# Altium integrated library ThunderKit.IntLib: 58 symbols (part 1 of 2)
Pins are listed as number, name and electrical type; pins without a type are passive.

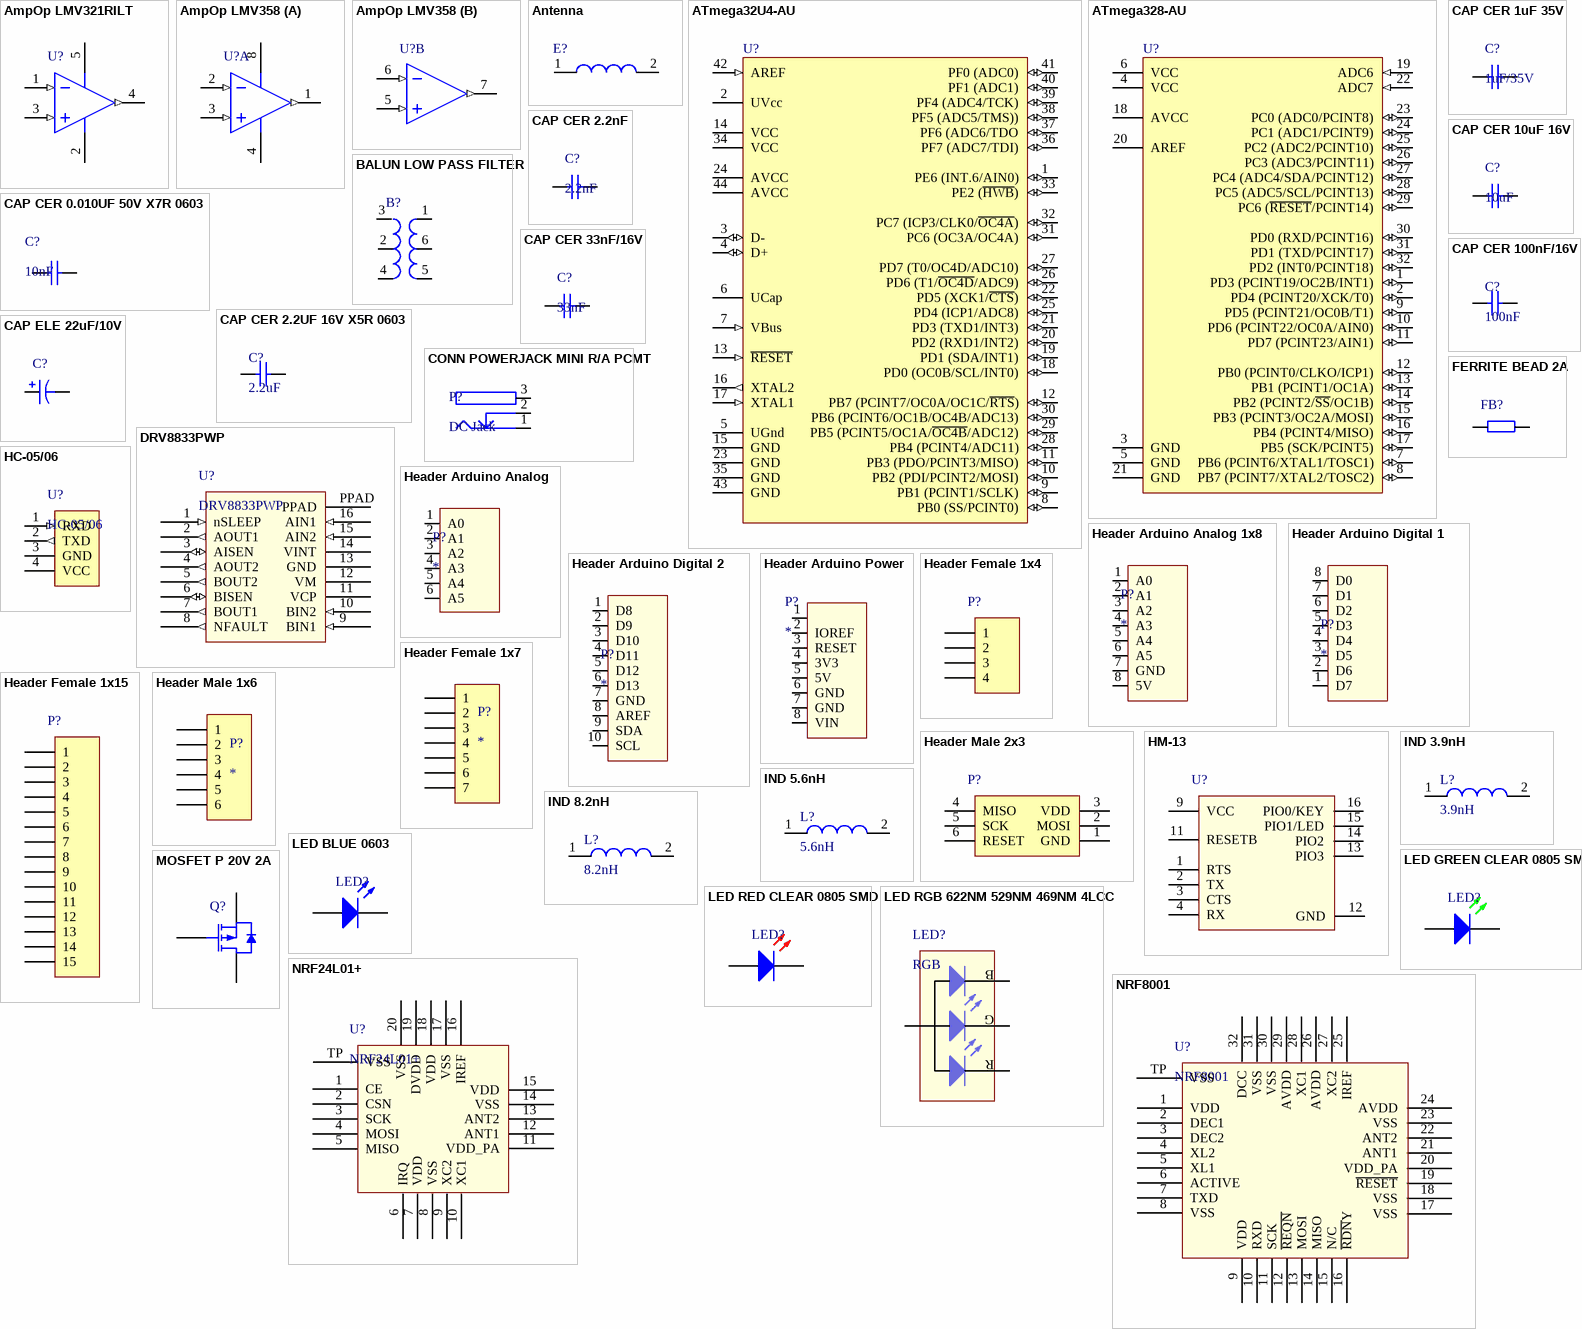
[diagram p0: symbols AmpOp LMV321RILT to NRF8001]

## AmpOp LMV321RILT
designator U?  (value not drawn)
IC OPAMP GP 1.3MHZ RRO SOT23-5; Manufacturer: STMicroelectronics; Manufacturer Part Number: LMV321RILT; Amplifier Type: General Purpose; Number of Circuits: 1; Output Type: Rail-to-Rail; Slew Rate: 0.45 V/µs; Current - Input Bias: 16nA; Voltage - Input Offset: 100µV; Current - Supply: 162µA; Current - Output / Channel: 48mA; Voltage - Supply, Single/Dual (±): 2.7 V ~ 6 V; Supplier 1: Digi-Key; RoHS: RoHS Compliant; Category: Integrated Circuits (ICs); Stock 1: 9362; Pricing 1: 1=0.42, 10=0.363, 100=0.2711, 500=0.213, 1000=0.16459 (USD); Packaging: Cut Tape (CT); Part Status: Active; Gain Bandwidth Product: 1.3MHz; -3db Bandwidth: -; Operating Temperature: -40°C ~ 125°C; Mounting Type: Surface Mount; Package / Case: SC-74A, SOT-753; Supplier Device Package: SOT-23-5; ComponentLink1URL: http://www.st.com/content/ccc/resource/technical/document/datasheet/b9/d8/3b/8f/a1/8f/46/01/CD00079372.pdf/files/CD00079372.pdf/jcr:content/translations/en.CD00079372.pdf; ComponentLink1Description: http://www.st.com/content/ccc/resource/technical/document/datasheet/b9/d8/3b/8f/a1/8f/46/01/CD00079372.pdf/files/CD00079372.pdf/jcr:content/translations/en.CD00079372.pdf; Supplier Part Number 1: 497-4942-1-ND
footprint SOT23-5 (Regulador 3.3v)
pins: 1 IN- (in), 2 GND (power), 3 IN+ (in), 4 OUT (out), 5 VCC (power)

## AmpOp LMV358
designator U?, comment OPAMP lmv358  (value not drawn)
IC OPAMP GP 1MHZ RRO 8VSSOP; Manufacturer: Texas Instruments; Manufacturer Part Number: LMV358IDGKR; Amplifier Type: General Purpose; Number of Circuits: 2; Output Type: Rail-to-Rail; Slew Rate: 1 V/µs; Current - Input Bias: 15nA; Voltage - Input Offset: 1.7mV; Current - Supply: 210µA; Current - Output / Channel: 160mA; Voltage - Supply, Single/Dual (±): 2.7 V ~ 5.5 V, ±1.35 V ~ 2.75 V; Supplier 1: Digi-Key; RoHS: RoHS Compliant; Category: Integrated Circuits (ICs); Stock 1: 31598; Pricing 1: 1=0.77, 10=0.68, 100=0.52, 500=0.412, 1000=0.33 (USD); Packaging: Digi-Reel®; Part Status: Active; Gain Bandwidth Product: 1MHz; -3db Bandwidth: -; Operating Temperature: -40°C ~ 125°C; Mounting Type: Surface Mount; Package / Case: 8-TSSOP, 8-MSOP (0.118", 3.00mm Width); Supplier Device Package: 8-VSSOP; ComponentLink1URL: http://www.ti.com/lit/ds/symlink/lmv324.pdf; ComponentLink1Description: http://www.ti.com/lit/ds/symlink/lmv324.pdf; Supplier Part Number 1: 296-13455-6-ND
footprint VSSOP (TSOP, 8-Leads, Body 3,00x3,00mm, Pitch 0,65mm, IPC Medium Density)
part A pins: 1 OUT1 (out), 2 IN1- (in), 3 IN1+ (in), 4 GND (power), 8 VCC (power)
part B pins: 5 IN2+ (in), 6 IN2- (in), 7 2 (out)

## Antenna
designator E?, comment AMCA31-2R450G-S1F-T  (value not drawn)
ANTENNA CHIP DIELECTRIC 2450MHZ; Manufacturer: Abracon LLC; Frequency Group: UHF (2 GHz ~ 3 GHz); Frequency (Center/Band): 2.4GHz; Frequency Range: 2.405GHz ~ 2.495GHz; Number of Bands: 1; VSWR: 2; Gain: 0.5dBi; Power - Max: 3W; Supplier 1: Digi-Key; Manufacturer Part Number: AMCA31-2R450G-S1F-T; RoHS: RoHS Compliant; Category: RF/IF and RFID; Stock 1: 2070; Pricing 1: 1=0.48, 10=0.408, 25=0.3568, 100=0.3059, 250=0.26512, 500=0.22434 (USD); Packaging: Cut Tape (CT); Part Status: Active; Antenna Type: Chip; Return Loss: -; Features: -; Termination: Solder; Ingress Protection: -; Mounting Type: Surface Mount; Height (Max): 0.047" (1.20mm); Applications: Bluetooth, WLAN; ComponentLink1URL: http://www.abracon.com/chip-antenna/AMCA31-2R450G-S1F-T.pdf; ComponentLink1Description: http://www.abracon.com/chip-antenna/AMCA31-2R450G-S1F-T.pdf; Supplier Part Number 1: 535-12386-1-ND
pins: 1, 2

## ATmega32U4-AU
designator U?
8-bit AVR Microcontroller, 2.7-5.5V, 32KB Flash, 2.5KB EEPROM, 1KB SRAM, USB Controller, 44-pin TQFP, Industrial Grade (-40°C to 85°C); Published: 1-Apr-2010; DatasheetVersion: revD, Jan-2009; PackageVersion: rev.G, Jul-2007; PackageReference: 44ML; Publisher: Altium Limited; PackageDescription: 44-Pin Plastic Thin Quad Flat Pack, 10 x 10 x 1.0 mm Body, 0.8 mm Pitch (TQFP); Supplier 1: Digi-Key; Supplier Part Number 1: ATMEGA32U4-AU-ND; Supplier 2: Farnell; Supplier Part Number 2: 1748525; Supplier 3: Mouser; Supplier Part Number 3: 556-ATMEGA32U4-AU; ComponentLink1Description: Manufacturer Link; ComponentLink1URL: http://www.atmel.com/products/avr/default.asp?; ComponentLink2Description: ATmega16U4/32U4 Datasheet; ComponentLink2URL: http://www.atmel.com/dyn/resources/prod_documents/doc7766.pdf; ComponentLink3Description: ATmega16U4 ATmega32U4 Summary; ComponentLink3URL: http://www.atmel.com/dyn/resources/prod_documents/7766S.pdf; ComponentLink4Description: Atmel.com Home; ComponentLink4URL: http://www.atmel.com
footprint 44ML (Thin QFP, 44-Leads, Body 10x10mm, Pitch 0.8mm, IPC Low Density)
pins: 1 PE6 (INT.6/AIN0) (io), 2 UVcc (power), 3 D- (io), 4 D+ (io), 5 UGnd (power), 6 UCap, 7 VBus (in), 8 PB0 (SS/PCINT0) (io), 9 PB1 (PCINT1/SCLK) (io), 10 PB2 (PDI/PCINT2/MOSI) (io), 11 PB3 (PDO/PCINT3/MISO) (io), 12 PB7 (PCINT7/OC0A/OC1C/~{RTS}) (io), 13 ~{RESET} (in), 14 VCC (power), 15 GND (power), 16 XTAL2 (out), 17 XTAL1 (in), 18 PD0 (OC0B/SCL/INT0) (io), 19 PD1 (SDA/INT1) (io), 20 PD2 (RXD1/INT2) (io), 21 PD3 (TXD1/INT3) (io), 22 PD5 (XCK1/~{CTS}) (io), 23 GND (power), 24 AVCC (power), 25 PD4 (ICP1/ADC8) (io), 26 PD6 (T1/~{OC4D}/ADC9) (io), 27 PD7 (T0/OC4D/ADC10) (io), 28 PB4 (PCINT4/ADC11) (io), 29 PB5 (PCINT5/OC1A/~{OC4B}/ADC12) (io), 30 PB6 (PCINT6/OC1B/OC4B/ADC13) (io), 31 PC6 (OC3A/OC4A) (io), 32 PC7 (ICP3/CLK0/~{OC4A}) (io), 33 PE2 (~{HWB}) (io), 34 VCC (power), 35 GND (power), 36 PF7 (ADC7/TDI) (io), 37 PF6 (ADC6/TDO (io), 38 PF5 (ADC5/TMS)) (io), 39 PF4 (ADC4/TCK) (io), 40 PF1 (ADC1) (io), 41 PF0 (ADC0) (io), 42 AREF (in), 43 GND (power), 44 AVCC (power)

## ATmega328-AU
designator U?
8-bit AVR Microcontroller, 32KB Flash, 1KB EEPROM, 2KB SRAM, 32-pin TQFP, Industrial Grade (-40°C to 85°C); Published: 1-Apr-2010; DatasheetVersion: revA, Jan-2010; PackageVersion: revB, Oct-2001; PackageReference: 32A; Publisher: Altium Limited; PackageDescription: 32-Lead, 7x7x1.0 mm Body, 0.8mm Lead Pitch, Thin Profile Plastic Quad Flat Package (TQFP); Supplier 1: Digi-Key; Supplier Part Number 1: ATMEGA328-AU-ND; Supplier 2: Mouser; Supplier Part Number 2: 556-ATMEGA328-AU; Code_JEDEC: MS-026-ABA; ComponentLink1Description: Manufacturer Link; ComponentLink1URL: http://www.atmel.com/products/avr/default.asp?; ComponentLink2Description: ATmega48A/48PA/88A/88PA/168A/168PA/328/328P Datasheet; ComponentLink2URL: http://www.atmel.com/dyn/resources/prod_documents/8271.pdf; ComponentLink3Description: ATmega48A/48PA/88A/88PA/168A/168PA/328/328P Summary; ComponentLink3URL: http://www.atmel.com/dyn/resources/prod_documents/8271S.pdf; ComponentLink4Description: Atmel.com Home; ComponentLink4URL: http://www.atmel.com
footprint 32A_N (Thin QFP, 32-Leads, Body 7x7mm, Pitch 0.8mm, IPC Medium Density)
footprint 32A_L (Thin QFP, 32-Leads, Body 7x7mm, Pitch 0.8mm, IPC High Density)
footprint 32A_M (Thin QFP, 32-Leads, Body 7x7mm, Pitch 0.8mm, IPC Low Density)
pins: 1 PD3 (PCINT19/OC2B/INT1) (io), 2 PD4 (PCINT20/XCK/T0) (io), 3 GND (power), 4 VCC (power), 5 GND (power), 6 VCC (power), 7 PB6 (PCINT6/XTAL1/TOSC1) (io), 8 PB7 (PCINT7/XTAL2/TOSC2) (io), 9 PD5 (PCINT21/OC0B/T1) (io), 10 PD6 (PCINT22/OC0A/AIN0) (io), 11 PD7 (PCINT23/AIN1) (io), 12 PB0 (PCINT0/CLKO/ICP1) (io), 13 PB1 (PCINT1/OC1A) (io), 14 PB2 (PCINT2/~{SS}/OC1B) (io), 15 PB3 (PCINT3/OC2A/MOSI) (io), 16 PB4 (PCINT4/MISO) (io), 17 PB5 (SCK/PCINT5) (io), 18 AVCC (power), 19 ADC6 (in), 20 AREF, 21 GND (power), 22 ADC7 (in), 23 PC0 (ADC0/PCINT8) (io), 24 PC1 (ADC1/PCINT9) (io), 25 PC2 (ADC2/PCINT10) (io), 26 PC3 (ADC3/PCINT11) (io), 27 PC4 (ADC4/SDA/PCINT12) (io), 28 PC5 (ADC5/SCL/PCINT13) (io), 29 PC6 (~{RESET}/PCINT14) (io), 30 PD0 (RXD/PCINT16) (io), 31 PD1 (TXD/PCINT17) (io), 32 PD2 (INT0/PCINT18) (io)

## BALUN LOW PASS FILTER
designator B?, comment Signal Conditioning 2.45GHz  (value not drawn)
NRF24L01 NRF24LE01 NRF8001 SMD; Manufacturer: Johanson Technology Inc.; Manufacturer Part Number: 2450BM14A0002T; Frequency Range: 2.4GHz ~ 2.5GHz; Impedance - Unbalanced/Balanced: 50 / - Ohm; Phase Difference: 160° ±15; Insertion Loss (Max): 2.0dB; Return Loss (Min): 9.5dB; Supplier 1: Digi-Key; RoHS: RoHS Compliant; Category: RF/IF and RFID; Stock 1: 110873; Pricing 1: 1=0.99, 10=0.879, 25=0.794, 100=0.6946, 250=0.60952, 500=0.53866, 1000=0.42525 (USD); Packaging: Cut Tape (CT); Part Status: Active; Package / Case: 0603 (1608 Metric), 6 PC Pad; Mounting Type: Surface Mount; ComponentLink1URL: http://www.johansontechnology.com/datasheets/baluns/Balun_Filter_Matched_2450BM14A0002_v2.pdf; ComponentLink1Description: http://www.johansontechnology.com/datasheets/baluns/Balun_Filter_Matched_2450BM14A0002_v2.pdf; Supplier Part Number 1: 712-1574-1-ND
footprint Low pass (SON, 6-Leads, Body 1,60x0,80mm, Pitch 0,50mm, IPC Medium Density)
pins: 1, 2, 3, 4, 5, 6 n/c

## CAP CER 0.010UF 50V X7R 0603
designator C?, comment 10nF
CAP CER 0.010UF 50V X7R 0603; Manufacturer: AVX; Manufacturer Part Number: 06035F103K4T2A; Unit: pcs; SuppliedAmount: 0; MinAmount: 20000; Multiples: 4000; Capacitor type: ceramic; Dielectric: X8R; Tolerance: ±10%; Case - inch: 0603; Case - mm: 1608; Capacitor application: automobile electronics; Conform to the norm: AEC-Q200; Supplier 1: TME; Category: 0603 MLCC SMD Capacitors; Stock 1: 0; Pricing 1: 20000=0.01042 (USD); Weight: 0.035; Price Type: NET; Capacitance: 10nF; Operating voltage: 50V; Mounting: SMD; Operating temperature: -55...150°C; ComponentLink1URL: http://www.tme.eu/en/details/06035f103k4t2a/0603-mlcc-smd-capacitors/avx/; ComponentLink1Description: http://www.tme.eu/en/details/06035f103k4t2a/0603-mlcc-smd-capacitors/avx/
footprint Capacitor-0603 (Chip Capacitor; Body 1.6 x 0.8 mm (LxW typ))
pins: 1, 2

## CAP CER 1uF 35V
designator C?, comment 1uF/35V
CAP CER 1UF 35V X7R 0805; Manufacturer: Murata Electronics North America; Manufacturer Part Number: GRM219R7YA105KA12D; Capacitance: 1µF; Tolerance: ±10%; Supplier 1: Digi-Key; RoHS: RoHS Compliant; Category: Capacitors; Stock 1: 7995; Pricing 1: 1=0.24, 10=0.162, 25=0.1176, 50=0.098, 100=0.0823, 250=0.06664, 500=0.0588, 1000=0.04998 (USD); Packaging: Cut Tape (CT); Part Status: Active; Voltage - Rated: 35V; Temperature Coefficient: X7R; Operating Temperature: -55°C ~ 125°C; Features: Derating Recommended; Ratings: -; Applications: General Purpose; Failure Rate: *; Mounting Type: Surface Mount, MLCC; Package / Case: 0805 (2012 Metric); Size / Dimension: 0.079" L x 0.049" W (2.00mm x 1.25mm); Height - Seated (Max): -; Thickness (Max): 0.037" (0.95mm); Lead Spacing: -; Lead Style: -; ComponentLink1URL: http://www.murata.com/~/media/webrenewal/support/library/catalog/products/capacitor/mlcc/c02e.pdf; ComponentLink1Description: http://www.murata.com/~/media/webrenewal/support/library/catalog/products/capacitor/mlcc/c02e.pdf; Supplier Part Number 1: 490-10494-1-ND
footprint CAP 0805 N (Chip, Body 2.0x1.3mm, IPC Medium Density)
pins: 1, 2

## CAP CER 2.2nF
designator C?, comment 2.2nF
CAP CER 2200PF 10V X5R 0201 -> GRM033R61A222KA01D; Manufacturer: Murata Electronics North America; Tolerance: ±10%; Supplier 1: Digi-Key; Manufacturer Part Number: GRM033R61A222KA01D; RoHS: RoHS Compliant; Category: Capacitors; Stock 1: 63253; Pricing 1: 1=0.1, 50=0.004, 100=0.0033, 250=0.00272, 500=0.00232, 1000=0.0018, 5000=0.0015 (USD); Packaging: Cut Tape (CT); Part Status: Active; Capacitance: 2200pF; Voltage - Rated: 10V; Temperature Coefficient: X5R; Operating Temperature: -55°C ~ 85°C; Features: -; Ratings: -; Applications: General Purpose; Mounting Type: Surface Mount, MLCC; Package / Case: 0201 (0603 Metric); Size / Dimension: 0.024" L x 0.012" W (0.60mm x 0.30mm); Height - Seated (Max): -; Thickness (Max): 0.013" (0.33mm); Lead Spacing: -; Lead Style: -; ComponentLink1URL: http://www.murata.com/~/media/webrenewal/support/library/catalog/products/capacitor/mlcc/c02e.pdf; ComponentLink1Description: http://www.murata.com/~/media/webrenewal/support/library/catalog/products/capacitor/mlcc/c02e.pdf; Supplier Part Number 1: 490-3162-1-ND
footprint Capacitor-0603 (Chip Capacitor; Body 1.6 x 0.8 mm (LxW typ))
pins: 1, 2

## CAP CER 2.2UF 16V X5R 0603
designator C?, comment 2.2uF
CAP CER 2.2UF 16V X5R 0603; Manufacturer: Murata Electronics North America; Manufacturer Part Number: GRM188R61C225KE15D; Capacitance: 2.2µF; Tolerance: ±10%; Supplier 1: Digi-Key; RoHS: RoHS Compliant; Category: Capacitors; Stock 1: 411149; Pricing 1: 1=0.12, 10=0.08, 50=0.046, 100=0.038, 250=0.032, 500=0.0268, 1000=0.022 (USD); Packaging: Cut Tape (CT); Part Status: Active; Voltage - Rated: 16V; Temperature Coefficient: X5R; Operating Temperature: -55°C ~ 85°C; Features: -; Ratings: -; Applications: General Purpose; Failure Rate: *; Mounting Type: Surface Mount, MLCC; Package / Case: 0603 (1608 Metric); Size / Dimension: 0.063" L x 0.031" W (1.60mm x 0.80mm); Height - Seated (Max): -; Thickness (Max): 0.035" (0.90mm); Lead Spacing: -; Lead Style: -; ComponentLink1URL: http://www.murata.com/~/media/webrenewal/support/library/catalog/products/capacitor/mlcc/c02e.pdf; ComponentLink1Description: http://www.murata.com/~/media/webrenewal/support/library/catalog/products/capacitor/mlcc/c02e.pdf; Supplier Part Number 1: 490-3296-1-ND
footprint Capacitor-0603 (Chip Capacitor; Body 1.6 x 0.8 mm (LxW typ))
footprint Capacitor-0603 (Chip Capacitor; Body 1.6 x 0.8 mm (LxW typ))
pins: 1, 2

## CAP CER 10uF 16V
designator C?, comment 10uF
CAP CER 10UF 16V X5R 0805; Manufacturer: AVX Corporation; Manufacturer Part Number: 0805YD106KAT2A; Capacitance: 10µF; Tolerance: ±10%; Supplier 1: Digi-Key; RoHS: RoHS Compliant; Category: Capacitors; Stock 1: 274209; Pricing 1: 1=0.19, 10=0.127, 25=0.0932, 50=0.0762, 100=0.0644, 250=0.05256, 500=0.04408, 1000=0.03899 (USD); Packaging: Cut Tape (CT); Part Status: Active; Voltage - Rated: 16V; Temperature Coefficient: X5R; Operating Temperature: -55°C ~ 85°C; Features: -; Ratings: -; Applications: General Purpose; Mounting Type: Surface Mount, MLCC; Package / Case: 0805 (2012 Metric); Size / Dimension: 0.079" L x 0.049" W (2.01mm x 1.25mm); Height - Seated (Max): -; Thickness (Max): 0.055" (1.40mm); Lead Spacing: -; Lead Style: -; ComponentLink1URL: http://datasheets.avx.com/cx5r.pdf; ComponentLink1Description: http://datasheets.avx.com/cx5r.pdf; Supplier Part Number 1: 478-5165-1-ND
footprint CAP 0805 N (Chip, Body 2.0x1.3mm, IPC Medium Density)
pins: 1, 2

## CAP CER 33nF/16V
designator C?, comment 33nF
CAP CER 0.033UF 16V X7R 0603; Manufacturer: Wurth Electronics Inc; Manufacturer Part Number: 885012206043; Capacitance: 0.033µF; Tolerance: ±10%; Supplier 1: Digi-Key; RoHS: RoHS Compliant; Category: Capacitors; Stock 1: 3700; Pricing 1: 1=0.1, 50=0.0468, 100=0.0367, 250=0.0324, 500=0.02952, 1000=0.02736 (USD); Packaging: Cut Tape (CT); Part Status: Active; Voltage - Rated: 16V; Temperature Coefficient: X7R; Operating Temperature: -55°C ~ 125°C; Features: -; Ratings: -; Applications: General Purpose; Mounting Type: Surface Mount, MLCC; Package / Case: 0603 (1608 Metric); Size / Dimension: 0.063" L x 0.031" W (1.60mm x 0.80mm); Height - Seated (Max): -; Thickness (Max): 0.034" (0.87mm); Lead Spacing: -; Lead Style: -; ComponentLink1URL: http://katalog.we-online.de/pbs/datasheet/885012206043.pdf; ComponentLink1Description: http://katalog.we-online.de/pbs/datasheet/885012206043.pdf; Supplier Part Number 1: 732-7962-1-ND
footprint Capacitor-0603 (Chip Capacitor; Body 1.6 x 0.8 mm (LxW typ))
pins: 1, 2

## CAP CER 100nF/16V
designator C?, comment 100nF
CAP CER 0.1UF 16V X7S 0201; Manufacturer: Murata Electronics North America; Manufacturer Part Number: GRM033C71C104KE14D; Capacitance: 0.10µF; Tolerance: ±10%; Supplier 1: Digi-Key; RoHS: RoHS Compliant; Category: Capacitors; Stock 1: 0; Pricing 1: 1=0.1, 10=0.05, 25=0.0356, 50=0.0274, 100=0.0231, 250=0.01892, 500=0.01618, 1000=0.0126, 5000=0.0105 (USD); Packaging: Cut Tape (CT); Part Status: Active; Voltage - Rated: 16V; Temperature Coefficient: X7S; Operating Temperature: -55°C ~ 125°C; Features: Derating Recommended; Ratings: -; Applications: General Purpose; Mounting Type: Surface Mount, MLCC; Package / Case: 0201 (0603 Metric); Size / Dimension: 0.024" L x 0.012" W (0.60mm x 0.30mm); Height - Seated (Max): -; Thickness (Max): 0.013" (0.33mm); Lead Spacing: -; Lead Style: -; ComponentLink1URL: http://www.murata.com/~/media/webrenewal/support/library/catalog/products/capacitor/mlcc/c02e.pdf; ComponentLink1Description: http://www.murata.com/~/media/webrenewal/support/library/catalog/products/capacitor/mlcc/c02e.pdf; Supplier Part Number 1: 490-10387-1-ND
footprint Capacitor-0603 (Chip Capacitor; Body 1.6 x 0.8 mm (LxW typ))
pins: 1, 2

## CAP ELE 22uF/10V
designator C?, comment EEE-1AA220WR  (value not drawn)
CAP ALUM 22UF 20% 10V SMD; Manufacturer: Panasonic Electronic Components; Capacitance: 22µF; Lifetime @ Temp.: 1000 Hrs @ 85°C; Polarization: Polar; Ripple Current: 28mA @ 120Hz; Surface Mount Land Size: 0.169" L x 0.169" W (4.30mm x 4.30mm); Supplier 1: Digi-Key; Manufacturer Part Number: EEE-1AA220WR; RoHS: RoHS Compliant; Category: Capacitors; Stock 1: 39335; Pricing 1: 1=0.28, 10=0.194, 25=0.1552, 50=0.1294, 100=0.1101, 250=0.0874, 500=0.07768, 1000=0.06798 (USD); Packaging: Cut Tape (CT); Part Status: Active; Tolerance: ±20%; Voltage Rating: 10V; ESR (Equivalent Series Resistance): -; Operating Temperature: -40°C ~ 85°C; Applications: General Purpose; Impedance: -; Lead Spacing: -; Size / Dimension: 0.157" Dia (4.00mm); Height - Seated (Max): 0.213" (5.40mm); Mounting Type: Surface Mount; Package / Case: Radial, Can - SMD; ComponentLink1URL: https://industrial.panasonic.com/cdbs/www-data/pdf/RDE0000/ABA0000C1145.pdf; ComponentLink1Description: https://industrial.panasonic.com/cdbs/www-data/pdf/RDE0000/ABA0000C1145.pdf; Supplier Part Number 1: PCE3869CT-ND
footprint CAP ELE 4x5.5 (Aluminum Electrolytic Capacitor, Body 4,30x4,30x5,50mm, IPC Low Density)
pins: 1, 2

## CONN POWERJACK MINI R/A PCMT
designator P?, comment DC Jack
CONN POWERJACK MINI R/A PCMT; Manufacturer: Switchcraft Inc.; Manufacturer Part Number: RAPC712X; Gender: Male; Industry Recognized Mating Diameter: 2.50mm ID (0.098"), 5.50mm OD (0.217"); Actual Diameter: 0.098" (2.50mm ID), 0.248" (6.30mm OD); Number of Positions/Contacts: 2 Conductors, 3 Contacts; Internal Switch(s): Single Switch, Normally Closed; Shielding: Unshielded; Current Rating: 5A; Includes: 1 pc - 1 Connector; Supplier 1: Digi-Key; RoHS: RoHS Compliant; Category: Connectors, Interconnects; Stock 1: 37774; Pricing 1: 1=0.9, 10=0.833, 25=0.7856, 50=0.7616, 100=0.7259, 250=0.714, 500=0.7 (USD); Packaging: Bulk; Part Status: Active; Connector Type: Jack; Mounting Type: Through Hole, Right Angle; Mounting Feature: -; Termination: Solder Eyelet(s); Features: -; Insulation Color: -; Voltage - Rated: -; Mating Length/Depth: -; Contact Material - Plating: Silver; Body Material: -; Operating Temperature: -; ComponentLink1URL: http://www.conxall.com/Drawings/rapc712x_cd.pdf; ComponentLink1Description: http://www.conxall.com/Drawings/rapc712x_cd.pdf; Supplier Part Number 1: SC237-ND
footprint PJ-002B (DC Power Jack, 2.5mm, KLD Series, PCB Mount)
pins: 1 GND (power), 2 DETECT, 3 V+ (power)

## DRV8833PWP
designator U?
IC MOTOR DRIVER PAR 16HTSSOP; Manufacturer: Texas Instruments; Output Configuration: Half Bridge (4); Interface: PWM; Load Type: Inductive; Rds On (Typ): 160 mOhm LS, 200 mOhm HS; Current - Output / Channel: 1.5A; Current - Peak Output: 2A; Voltage - Supply: 2.7 V ~ 10.8 V; Fault Protection: Current Limiting, Over Temperature, Short Circuit, UVLO; Supplier 1: Digi-Key; Manufacturer Part Number: DRV8833PWP; RoHS: RoHS Compliant; Category: Integrated Circuits (ICs); Stock 1: 188; Pricing 1: 1=2.87, 10=2.576, 100=2.0704, 500=1.701, 1000=1.215 (USD); Packaging: Tube; Applications: DC Motors, General Purpose, Solenoids, Stepper Motors; Technology: NMOS; Voltage - Load: 2.7 V ~ 10.8 V; Operating Temperature: -40°C ~ 150°C (TJ); Features: Status Flag; Mounting Type: Surface Mount; Package / Case: 16-TSSOP (0.173", 4.40mm Width) Exposed Pad; Supplier Device Package: 16-HTSSOP; ComponentLink1URL: http://www.ti.com/lit/ds/symlink/drv8833.pdf; ComponentLink1Description: http://www.ti.com/lit/ds/symlink/drv8833.pdf
footprint DRV8833PWP_3D (Texas Instruments DRV8833 Motor Driver)
pins: 1 nSLEEP (in), 2 AOUT1 (out), 3 AISEN (io), 4 AOUT2 (out), 5 BOUT2 (out), 6 BISEN (io), 7 BOUT1 (out), 8 NFAULT (out), 9 BIN1 (in), 10 BIN2 (in), 11 VCP, 12 VM (power), 13 GND (power), 14 VINT (power), 15 AIN2 (in), 16 AIN1 (in), PPAD (power)

## FERRITE BEAD 2A
designator FB?, comment *MH2029-300Y  (value not drawn)
FERRITE BEAD 30 OHM 0805 1LN; Manufacturer: Bourns Inc.; Filter Type: Power, Signal Line; Number of Lines: 1; Impedance @ Frequency: 30 Ohm @ 100MHz; Current Rating (Max): 3A; DC Resistance (DCR) (Max): 25 mOhm; Supplier 1: Digi-Key; Manufacturer Part Number: MH2029-300Y; RoHS: RoHS Compliant; Category: Filters; Stock 1: 40536; Pricing 1: 1=0.1, 10=0.062, 25=0.0568, 50=0.051, 100=0.0375, 250=0.02724, 500=0.02498, 1000=0.02157 (USD); Packaging: Cut Tape (CT); Part Status: Active; Ratings: -; Operating Temperature: -55°C ~ 125°C; Package / Case: 0805 (2012 Metric); Mounting Type: Surface Mount; Height (Max): 0.043" (1.10mm); Size / Dimension: 0.079" L x 0.047" W (2.00mm x 1.20mm); ComponentLink1URL: http://www.bourns.com/docs/Product-Datasheets/mh.pdf; ComponentLink1Description: http://www.bourns.com/docs/Product-Datasheets/mh.pdf; Supplier Part Number 1: MH2029-300YCT-ND
footprint Ferrite 0603
pins: 1 VCC (power), 2 GND (power)

## HC-05/06
designator U?
HC-05/06 Bluetooth Module
footprint HC-05/06 (HC-05/06 Bluetooth Module)
pins: 1 RXD (in), 2 TXD (out), 3 GND (power), 4 VCC

## Header Arduino Analog
designator P?
footprint HDR FEMALE 1x6
pins: 1 A0, 2 A1, 3 A2, 4 A3, 5 A4, 6 A5

## Header Arduino Analog 1x8
designator P?
footprint HDR FEMALE 1x8
pins: 1 A0, 2 A1, 3 A2, 4 A3, 5 A4, 6 A5, 7 GND, 8 5V

## Header Arduino Digital 1
designator P?
footprint HDR FEMALE 1x8
pins: 1 D7, 2 D6, 3 D5, 4 D4, 5 D3, 6 D2, 7 D1, 8 D0

## Header Arduino Digital 2
designator P?
footprint HDR FEMALE 1x10
pins: 1 D8, 2 D9, 3 D10, 4 D11, 5 D12, 6 D13, 7 GND, 8 AREF, 9 SDA, 10 SCL

## Header Arduino Power
designator P?
footprint HDR FEMALE 1x8
pins: 1, 2 IOREF, 3 RESET, 4 3V3, 5 5V, 6 GND, 7 GND, 8 VIN

## Header Female 1x4
designator P?  (value not drawn)
Headers & Wire Housings 40Pin 2mm Spacing Single Row Hdrs, 5pc; Manufacturer: Cromax; Mounting Angle: Vertical; Number of Positions: 40 Position; Supplier 1: -; Manufacturer Part Number: -; RoHS: RoHS Compliant; Category: Headers & Wire Housings; Stock 1: 14; Pricing 1: 1=1.60, 5=0.32 (BRL); Accessory Type: -; Contact Plating: Gold; Contact Type: -; Number of Rows: 1 Row; Product: Headers; Termination Style: Through Hole; Type: Breakaway; Brand: Cromax; Mounting Style: Straight Pin; Pitch: 2 mm; Row Spacing: -; Contact Gender: Pin (Female); Product Category: Accessories; RoHS - Mouser: Y; Minimum Order Quantity: 1; Reeling: False; ComponentLink1URL: -; ComponentLink1Description: -; Supplier Part Number 1: -
footprint HDR FEMALE 1x4 (Connector; Header; 4 Position)
pins: 1, 2, 3 (power), 4 (power)

## Header Female 1x7
designator P?
Headers & Wire Housings 36Pin 2mm Spacing Single Row Hdrs, 5pc; Manufacturer: Molex, LLC; Manufacturer Part Number: 0022284360; Connector Type: Header, Unshrouded, Breakaway; Number of Positions: 36; Number of Positions Loaded: All; Pitch: 0.100" (2.54mm); Supplier 1: Digi-Key; RoHS: RoHS Compliant; Category: Connectors, Interconnects; Stock 1: 9595; Pricing 1: 1=0.98, 10=0.858, 25=0.808, 50=0.7742, 100=0.7405, 250=0.6732, 500=0.60588 (USD); Packaging: Bulk; Contact Type: Male Pin; Number of Rows: 1; Row Spacing: -; Contact Mating Length: 0.240" (6.10mm); Mounting Type: Through Hole; Termination: Solder; Fastening Type: -; Features: -; Contact Finish: Tin; Contact Finish Thickness: 100µin (2.54µm); Color: Black; ComponentLink1URL: http://www.molex.com/pdm_docs/sd/022284360_sd.pdf; ComponentLink1Description: http://www.molex.com/pdm_docs/sd/022284360_sd.pdf; Supplier Part Number 1: WM50014-36-ND
footprint HDR FEMALE 1x7
pins: 1, 2, 3, 4, 5, 6, 7

## Header Female 1x15
designator P?  (value not drawn)
Headers & Wire Housings 40Pin 2mm Spacing Single Row Hdrs, 5pc; Manufacturer: Cromax; Mounting Angle: Vertical; Number of Positions: 40 Position; Supplier 1: -; Manufacturer Part Number: -; RoHS: RoHS Compliant; Category: Headers & Wire Housings; Stock 1: 14; Pricing 1: 1=1.60, 5=0.32 (BRL); Accessory Type: -; Contact Plating: Gold; Contact Type: -; Number of Rows: 1 Row; Product: Headers; Termination Style: Through Hole; Type: Breakaway; Brand: Cromax; Mounting Style: Straight Pin; Pitch: 2 mm; Row Spacing: -; Contact Gender: Pin (Female); Product Category: Accessories; RoHS - Mouser: Y; Minimum Order Quantity: 1; Reeling: False; ComponentLink1URL: -; ComponentLink1Description: -; Supplier Part Number 1: -
footprint HDR FEMALE 1x15
pins: 1, 2, 3 (power), 4 (power), 5, 6, 7 (power), 8 (power), 9, 10, 11 (power), 12 (power), 13, 14, 15 (power)

## Header Male 1x6
designator P?
Headers & Wire Housings 36Pin 2mm Spacing Single Row Hdrs, 5pc; Manufacturer: Molex, LLC; Manufacturer Part Number: 0022284360; Connector Type: Header, Unshrouded, Breakaway; Number of Positions: 36; Number of Positions Loaded: All; Pitch: 0.100" (2.54mm); Supplier 1: Digi-Key; RoHS: RoHS Compliant; Category: Connectors, Interconnects; Stock 1: 9595; Pricing 1: 1=0.98, 10=0.858, 25=0.808, 50=0.7742, 100=0.7405, 250=0.6732, 500=0.60588 (USD); Packaging: Bulk; Contact Type: Male Pin; Number of Rows: 1; Row Spacing: -; Contact Mating Length: 0.240" (6.10mm); Mounting Type: Through Hole; Termination: Solder; Fastening Type: -; Features: -; Contact Finish: Tin; Contact Finish Thickness: 100µin (2.54µm); Color: Black; ComponentLink1URL: http://www.molex.com/pdm_docs/sd/022284360_sd.pdf; ComponentLink1Description: http://www.molex.com/pdm_docs/sd/022284360_sd.pdf; Supplier Part Number 1: WM50014-36-ND
footprint HDR FEMALE 1x6
pins: 1, 2, 3, 4, 5, 6

## Header Male 2x3
designator P?  (value not drawn)
Headers & Wire Housings 80Pin 2mm Spacing Single Row Hdrs, 5pc; Manufacturer: Cromax; Manufacturer Part Number: PR00004421; Mounting Angle: Vertical; Number of Positions: 80 Position; Supplier 1: Mult Comercial; RoHS: RoHS Compliant; Category: Headers & Wire Housings; Stock 1: 14; Pricing 1: 1=5.60, 5=1.12 (BRL); Accessory Type: -; Contact Plating: Gold; Contact Type: -; Number of Rows: 2 Row; Product: Headers; Termination Style: Through Hole; Type: Breakaway; Brand: Cromax; Mounting Style: Straight Pin; Pitch: 2 mm; Row Spacing: -; Contact Gender: Pin (Male); Product Category: Accessories; RoHS - Mouser: Y; Minimum Order Quantity: 1; Reeling: False; ComponentLink1URL: http://loja.multcomercial.com.br/barra-de-pinos-duplos-2x40-macho-bma040-2e.html; ComponentLink1Description: http://loja.multcomercial.com.br/barra-de-pinos-duplos-2x40-macho-bma040-2e.html; Supplier Part Number 1: Barra de Pinos Duplos 2x40 Macho BMA040-2E
footprint HDR MALE 2x3 (Connector; Header; 6 Position)
pins: 1 GND (power), 2 MOSI, 3 VDD (power), 4 MISO, 5 SCK, 6 RESET

## HM-13
designator U?  (value not drawn)
Bluetooth module
footprint HM-13
pins: 1 RTS, 2 TX, 3 CTS, 4 RX, 9 VCC, 11 RESETB, 12 GND, 13 PIO3, 14 PIO2, 15 PIO1/LED, 16 PIO0/KEY

## IND 3.9nH
designator L?, comment 3.9nH
FIXED IND 3.9NH 300MA 450 MOHM ->L-05B3N9SV6T; Manufacturer: Johanson Technology Inc.; Type: Multilayer; Material - Core: Ceramic; Tolerance: ±0.3nH; Shielding: Unshielded; DC Resistance (DCR): 450 mOhm Max; Q @ Freq: 4 @ 100MHz; Frequency - Self Resonant: 6.8GHz; Frequency - Test: 100MHz; Supplier 1: Digi-Key; Manufacturer Part Number: L-05B3N9SV6T; RoHS: RoHS Compliant; Category: Inductors, Coils, Chokes; Stock 1: 49053; Pricing 1: 1=0.1, 10=0.036, 25=0.0328, 50=0.0292, 100=0.0248, 250=0.02184, 500=0.02002, 1000=0.01711, 5000=0.0131 (USD); Packaging: Cut Tape (CT); Part Status: Active; Inductance: 3.9nH; Current Rating: 300mA; Current - Saturation: -; Ratings: -; Operating Temperature: -40°C ~ 100°C; Mounting Type: Surface Mount; Package / Case: 0201 (0603 Metric); Supplier Device Package: 0201 (0603 Metric); Size / Dimension: 0.024" L x 0.012" W (0.60mm x 0.30mm); Height - Seated (Max): 0.013" (0.33mm); ComponentLink1URL: http://www.johansontechnology.com/downloads/jti-cat-rf-ind.pdf; ComponentLink1Description: http://www.johansontechnology.com/downloads/jti-cat-rf-ind.pdf; Supplier Part Number 1: 712-1492-1-ND
footprint IND 0201 (0603)
pins: 1, 2

## IND 5.6nH
designator L?, comment 5.6nH
FIXED IND 5.6NH 300MA 600 MOHM - L-05B5N6SV6T; Manufacturer: Johanson Technology Inc.; Type: Multilayer; Material - Core: Ceramic; Tolerance: ±0.3nH; Shielding: Unshielded; DC Resistance (DCR): 600 mOhm Max; Q @ Freq: 5 @ 100MHz; Frequency - Self Resonant: 5.5GHz; Frequency - Test: 100MHz; Supplier 1: Digi-Key; Manufacturer Part Number: L-05B5N6SV6T; RoHS: RoHS Compliant; Category: Inductors, Coils, Chokes; Stock 1: 18705; Pricing 1: 1=0.1, 10=0.036, 25=0.0328, 50=0.0292, 100=0.0248, 250=0.02184, 500=0.02002, 1000=0.01711, 5000=0.0131 (USD); Packaging: Cut Tape (CT); Part Status: Active; Inductance: 5.6nH; Current Rating: 300mA; Current - Saturation: -; Ratings: -; Operating Temperature: -40°C ~ 100°C; Mounting Type: Surface Mount; Package / Case: 0201 (0603 Metric); Supplier Device Package: 0201 (0603 Metric); Size / Dimension: 0.024" L x 0.012" W (0.60mm x 0.30mm); Height - Seated (Max): 0.013" (0.33mm); ComponentLink1URL: http://www.johansontechnology.com/downloads/jti-cat-rf-ind.pdf; ComponentLink1Description: http://www.johansontechnology.com/downloads/jti-cat-rf-ind.pdf; Supplier Part Number 1: 712-1500-1-ND
footprint IND 0201 (0603)
pins: 1, 2

## IND 8.2nH
designator L?, comment 8.2nH
FIXED IND 8.2NH 250MA 900 MOHM ->L-05B8N2JV6T; Manufacturer: Johanson Technology Inc.; Type: Multilayer; Material - Core: Ceramic; Tolerance: ±5%; Shielding: Unshielded; DC Resistance (DCR): 900 mOhm Max; Q @ Freq: 5 @ 100MHz; Frequency - Self Resonant: 4.6GHz; Frequency - Test: 100MHz; Supplier 1: Digi-Key; Manufacturer Part Number: L-05B8N2JV6T; RoHS: RoHS Compliant; Category: Inductors, Coils, Chokes; Stock 1: 13365; Pricing 1: 1=0.1, 10=0.049, 25=0.044, 50=0.039, 100=0.0331, 250=0.02924, 500=0.02678, 1000=0.02289, 5000=0.01753 (USD); Packaging: Cut Tape (CT); Part Status: Active; Inductance: 8.2nH; Current Rating: 250mA; Current - Saturation: -; Ratings: -; Operating Temperature: -40°C ~ 100°C; Mounting Type: Surface Mount; Package / Case: 0201 (0603 Metric); Supplier Device Package: 0201 (0603 Metric); Size / Dimension: 0.024" L x 0.012" W (0.60mm x 0.30mm); Height - Seated (Max): 0.013" (0.33mm); ComponentLink1URL: http://www.johansontechnology.com/downloads/jti-cat-rf-ind.pdf; ComponentLink1Description: http://www.johansontechnology.com/downloads/jti-cat-rf-ind.pdf; Supplier Part Number 1: 712-1502-1-ND
footprint IND 0201 (0603)
pins: 1, 2

## LED BLUE 0603
designator LED?  (value not drawn)
LED BLUE CLEAR 0603 SMD; Manufacturer: Wurth Electronics Inc; Manufacturer Part Number: 150060BS75000; Lens Color: Colorless; Millicandela Rating: 145mcd; Lens Style/Size: Rectangle with Flat Top, 1.10mm x 0.70mm; Voltage - Forward (Vf) (Typ): 3.2V; Current - Test: 20mA; Viewing Angle: 140°; Wavelength - Dominant: 470nm; Wavelength - Peak: 465nm; Supplier 1: Digi-Key; RoHS: RoHS Compliant; Category: Optoelectronics; Stock 1: 14835; Pricing 1: 1=0.26, 50=0.2276, 100=0.208, 500=0.1885, 1000=0.1755 (USD); Packaging: Cut Tape (CT); Color: Blue; Lens Transparency: Clear; Mounting Type: Surface Mount; Features: -; Package / Case: 0603 (1608 Metric); Supplier Device Package: 0603; Size / Dimension: 1.60mm L x 0.80mm W; Height (Max): 0.80mm; ComponentLink1URL: http://katalog.we-online.de/led/datasheet/150060BS75000.pdf; ComponentLink1Description: http://katalog.we-online.de/led/datasheet/150060BS75000.pdf; Supplier Part Number 1: 732-4966-1-ND
footprint LED-0603-BLUE
pins: 1, 2

## LED GREEN CLEAR 0805 SMD
designator LED?, comment Green  (value not drawn)
LED GREEN CLEAR 0805 SMD; Manufacturer: Lite-On Inc.; Manufacturer Part Number: LTST-C171KGKT; Lens Color: Colorless; Millicandela Rating: 35mcd; Lens Style/Size: Rectangle with Flat Top, 1.40mm x 1.25mm; Voltage - Forward (Vf) (Typ): 2V; Current - Test: 20mA; Viewing Angle: 130°; Wavelength - Dominant: 571nm; Wavelength - Peak: 574nm; Supplier 1: Digi-Key; RoHS: RoHS Compliant; Category: Optoelectronics; Stock 1: 350122; Pricing 1: 1=0.31, 10=0.225, 25=0.1656, 100=0.1183, 250=0.0804, 500=0.07096, 1000=0.05558 (USD); Packaging: Cut Tape (CT); Color: Green; Lens Transparency: Clear; Mounting Type: Surface Mount; Features: -; Package / Case: 0805 (2012 Metric); Supplier Device Package: *; Size / Dimension: 2.00mm L x 1.25mm W; Height (Max): 0.80mm; ComponentLink1URL: http://optoelectronics.liteon.com/upload/download/DS22-2000-118/S_110_LTST-C171KGKT.pdf; ComponentLink1Description: http://optoelectronics.liteon.com/upload/download/DS22-2000-118/S_110_LTST-C171KGKT.pdf; Supplier Part Number 1: 160-1426-1-ND
footprint LED 0805 GREEN
pins: 1 A, 2 K

## LED RED CLEAR 0805 SMD
designator LED?, comment Blue  (value not drawn)
LED RED CLEAR 0805 SMD; Manufacturer: Lite-On Inc.; Manufacturer Part Number: LTST-C171KRKT; Lens Color: Colorless; Millicandela Rating: 54mcd; Lens Style/Size: Rectangle with Flat Top, 1.40mm x 1.25mm; Voltage - Forward (Vf) (Typ): 2V; Current - Test: 20mA; Viewing Angle: 130°; Wavelength - Dominant: 631nm; Wavelength - Peak: 639nm; Supplier 1: Digi-Key; RoHS: RoHS Compliant; Category: Optoelectronics; Stock 1: 214261; Pricing 1: 1=0.31, 10=0.225, 25=0.1656, 100=0.1183, 250=0.0804, 500=0.07096, 1000=0.05558 (USD); Packaging: Cut Tape (CT); Color: Red; Lens Transparency: Clear; Mounting Type: Surface Mount; Features: -; Package / Case: 0805 (2012 Metric); Supplier Device Package: *; Size / Dimension: 2.00mm L x 1.25mm W; Height (Max): 0.80mm; ComponentLink1URL: http://optoelectronics.liteon.com/upload/download/DS22-2000-109/S_110_LTST-C171KRKT.pdf; ComponentLink1Description: http://optoelectronics.liteon.com/upload/download/DS22-2000-109/S_110_LTST-C171KRKT.pdf; Supplier Part Number 1: 160-1427-1-ND
footprint LED 0805 RED (LED 0805 GREEN)
pins: 1 A, 2 K

## LED RGB 622NM 529NM 469NM 4LCC
designator LED?, comment RGB
LED RGB 622NM 529NM 469NM 4LCC; Manufacturer: Cree Inc.; Manufacturer Part Number: CLV1L-FKB-CHMMQDGBB7673673; Color: Red, Green, Blue (RGB); Millicandela Rating: 628mcd Red, 1255mcd Green, 248mcd Blue; Lens Style/Size: Round with Flat Top; Voltage - Forward (Vf) (Typ): 2V Red, 3.2V Green, 3.2V Blue; Current - Test: 20mA Red, 15mA Green, 15mA Blue; Wavelength - Dominant: 622nm Red, 529nm Green, 469nm Blue; Supplier 1: Digi-Key; RoHS: RoHS Compliant; Category: Optoelectronics; Stock 1: 0; Pricing 1: 2000=0.185 (USD); Packaging: Tape & Reel (TR); Lens Color: -; Lens Transparency: -; Viewing Angle: -; Mounting Type: Surface Mount; Wavelength - Peak: -; Features: -; Package / Case: 4-LCC (J-Lead); Supplier Device Package: 4-PLCC; Size / Dimension: 3.20mm L x 2.80mm W; Height (Max): 2.10mm; ComponentLink1URL: http://www.cree.com/~/media/Files/Cree/LED-Components-and-Modules/HB/Data-Sheets/CLV1L-FKB-1238.pdf; ComponentLink1Description: http://www.cree.com/~/media/Files/Cree/LED-Components-and-Modules/HB/Data-Sheets/CLV1L-FKB-1238.pdf; Supplier Part Number 1: CLV1L-FKB-CHMMQDGBB7673673-ND
footprint PLCC-4
pins: 1 A, 2 R-, 3 G-, 4 B-
text: B; G; R

## MOSFET P 20V 2A
designator Q?, comment FDN340P  (value not drawn)
MOSFET P-CH 20V 2A SSOT3; Manufacturer: Fairchild/ON Semiconductor; FET Type: P-Channel; Current - Continuous Drain (Id) @ 25°C: 2A (Ta); Drive Voltage (Max Rds On,  Min Rds On): 2.5V, 4.5V; Vgs(th) (Max) @ Id: 1.5V @ 250µA; Gate Charge (Qg) (Max) @ Vgs: 10nC @ 4.5V; Input Capacitance (Ciss) (Max) @ Vds: 779pF @ 10V; Vgs (Max): ±8V; Power Dissipation (Max): 500mW (Ta); Rds On (Max) @ Id, Vgs: 70 mOhm @ 2A, 4.5V; Supplier 1: Digi-Key; Manufacturer Part Number: FDN340P; RoHS: RoHS Compliant; Category: Discrete Semiconductor Products; Stock 1: 195; Pricing 1: 1=0.39, 10=0.315, 100=0.2146, 500=0.16092, 1000=0.12069 (USD); Packaging: Cut Tape (CT); Part Status: Active; Technology: MOSFET (Metal Oxide); Drain to Source Voltage (Vdss): 20V; FET Feature: -; Operating Temperature: -55°C ~ 150°C (TJ); Mounting Type: Surface Mount; Supplier Device Package: SuperSOT-3; Package / Case: TO-236-3, SC-59, SOT-23-3; ComponentLink1URL: https://www.fairchildsemi.com/datasheets/FD/FDN340P.pdf; ComponentLink1Description: https://www.fairchildsemi.com/datasheets/FD/FDN340P.pdf; Supplier Part Number 1: FDN340PCT-ND
footprint SOT23-3 M (SOT23, 3-Leads, Body 2,90x2,30mm, Pitch 0,95mm, IPC Low Density)
pins: 1 G, 2 D "mb", 3 S

## NRF24L01+
designator U?
IC RF TXRX ISM>1GHZ 20-VFQFN; Manufacturer: Nordic Semiconductor ASA; Manufacturer Part Number: NRF24L01P-T; RF Family/Standard: General ISM > 1GHZ; Modulation: GFSK; Frequency: 2.4GHz; Data Rate (Max): 2Mbps; Power - Output: 0dBm; Sensitivity: -94dBm; Serial Interfaces: SPI; Voltage - Supply: 1.9 V ~ 3.6 V; Current - Receiving: 12.6mA ~ 13.5mA; Current - Transmitting: 7mA ~ 11.3mA; Supplier 1: Digi-Key; RoHS: RoHS Compliant; Category: RF/IF and RFID; Stock 1: 4391; Pricing 1: 1=3.36, 10=3, 25=2.7, 100=2.46, 250=2.22, 500=1.992, 1000=1.68, 5000=1.53 (USD); Packaging: Tray; Part Status: Active; Type: TxRx Only; Protocol: -; Memory Size: -; GPIO: -; Operating Temperature: -40°C ~ 85°C; Package / Case: 20-VFQFN Exposed Pad; ComponentLink1URL: http://www.nordicsemi.com/eng/content/download/2726/34069/file/nRF24L01P_Product_Specification_1_0.pdf; ComponentLink1Description: http://www.nordicsemi.com/eng/content/download/2726/34069/file/nRF24L01P_Product_Specification_1_0.pdf; Supplier Part Number 1: 1490-1019-ND
footprint QFN20 (QFN, 20-Leads, Body 4,00x4,00mm, Pitch 0,50mm, Thermal Pad 2,60x2,60mm, IPC Medium Density)
pins: 1 CE, 2 CSN, 3 SCK, 4 MOSI, 5 MISO, 6 IRQ, 7 VDD (power), 8 VSS (power), 9 XC2, 10 XC1, 11 VDD_PA, 12 ANT1, 13 ANT2, 14 VSS (power), 15 VDD (power), 16 IREF, 17 VSS (power), 18 VDD (power), 19 DVDD (power), 20 VSS (power), TP VSS

## NRF8001
designator U?
IC RF TXRX BLUETOOTH 32-VFQFN; Manufacturer: Nordic Semiconductor ASA; Manufacturer Part Number: NRF8001-R2Q32-T; Protocol: Bluetooth v4.0; Modulation: GFSK; Frequency: 2.4GHz; Data Rate (Max): 1Mbps; Power - Output: 0dBm; Sensitivity: -87dBm; Serial Interfaces: I²C, SPI, UART; Voltage - Supply: 1.9 V ~ 3.6 V; Current - Receiving: 11.1mA ~ 14.6mA; Current - Transmitting: 6.6mA ~ 12.7mA; Supplier 1: Digi-Key; RoHS: RoHS Compliant; Category: RF/IF and RFID; Stock 1: 7648; Pricing 1: 1=4.26, 10=3.8, 25=3.42, 100=3.116, 250=2.812, 500=2.5232, 1000=2.128, 5000=1.938 (USD); Packaging: Tray; Part Status: Active; Type: TxRx Only; RF Family/Standard: Bluetooth; Memory Size: -; GPIO: -; Operating Temperature: -40°C ~ 85°C; Package / Case: 32-VFQFN Exposed Pad; ComponentLink1URL: http://www.nordicsemi.com/eng/content/download/2981/38488/file/nRF8001_PS_v1.2.pdf; ComponentLink1Description: http://www.nordicsemi.com/eng/content/download/2981/38488/file/nRF8001_PS_v1.2.pdf; Supplier Part Number 1: 1490-1026-ND
footprint QFN32 (QFN, 32-Leads, Body 5,00x5,00mm, Pitch 0,50mm, Thermal Pad 3,60x3,60mm, IPC Medium Density)
pins: 1 VDD (power), 2 DEC1, 3 DEC2, 4 XL2, 5 XL1, 6 ACTIVE, 7 TXD, 8 VSS (power), 9 VDD (power), 10 RXD, 11 SCK, 12 ~{REQN}, 13 MOSI, 14 MISO, 15 N/C, 16 ~{RDN}Y, 17 VSS (power), 18 VSS (power), 19 ~{RESET}, 20 VDD_PA (power), 21 ANT1, 22 ANT2, 23 VSS (power), 24 AVDD (power), 25 IREF, 26 AVDD (power), 27 XC2, 28 XC1, 29 AVDD (power), 30 VSS (power), 31 VSS (power), 32 DCC, TP VSS (power)

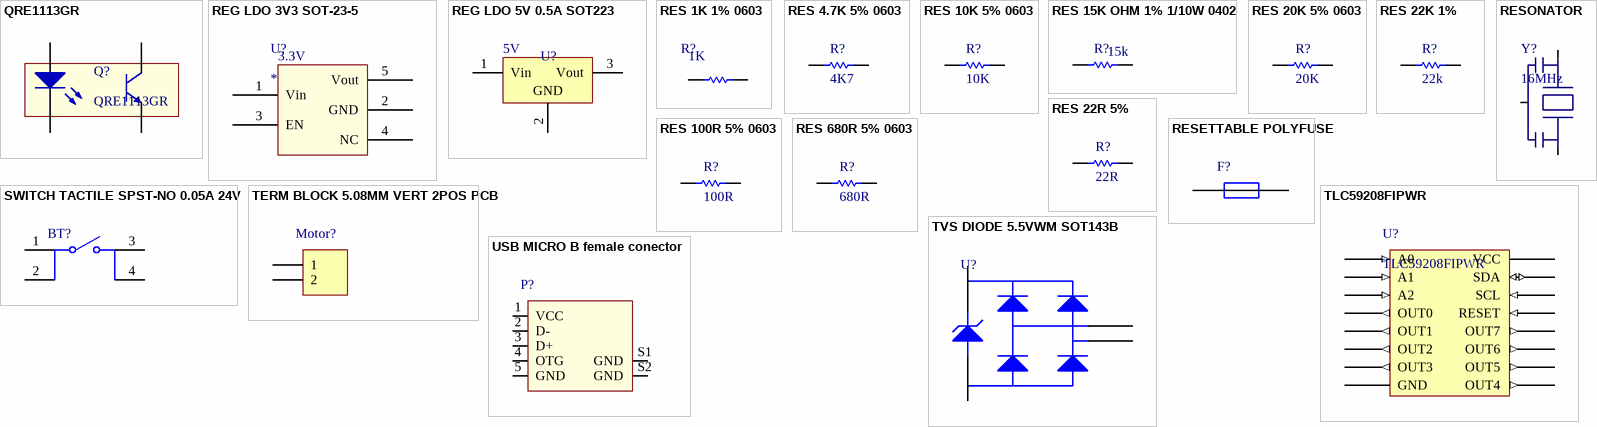
[diagram p1: symbols QRE1113GR to USB MICRO B female conector]

## QRE1113GR
designator Q?
FAIRCHILD SEMICONDUCTOR - QRE1113GR - OPTOCOUPLER, PHOTOTRANSISTOR O/P, SMD-4, FULL REEL; Supplier 1: Newark; Manufacturer: FAIRCHILD SEMICONDUCTOR; Manufacturer Part Number: QRE1113GR; RoHS: YES; Stock 1: 6000; Pricing 1: 1000=0,3, 2000=0,27, 4000=0,265, 6000=0,26, 10000=0,259 (USD); ComponentLink1URL: http://www.farnell.com/datasheets/2210186.pdf; ComponentLink1Description: http://www.farnell.com/datasheets/2210186.pdf
footprint QRE1113GR
pins: 1 A, 2 K, 3, 4

## REG LDO 3V3 SOT-23-5
designator U?  Voltage - Output: 3.3V
Manufacturer: Texas Instruments; Manufacturer Part Number: TLV70233DBVR; Regulator Topology: Positive Fixed; Current - Output: 300mA; Number of Regulators: 1; Voltage - Input: Up to 5.5V; Current - Limit (Min): 320mA; Supplier 1: Digi-Key; RoHS: RoHS Compliant; Category: Integrated Circuits (ICs); Stock 1: 37839; Pricing 1: 1=0.57, 10=0.488, 100=0.3641, 500=0.28602, 1000=0.2205 (USD); Packaging: Cut Tape (CT); Voltage - Dropout (Typical): -; Operating Temperature: -40°C ~ 125°C; Mounting Type: Surface Mount; Package / Case: SC-74A, SOT-753; Supplier Device Package: SOT-23-5; ComponentLink1URL: http://www.ti.com/lit/ds/symlink/tlv702.pdf; ComponentLink1Description: http://www.ti.com/lit/ds/symlink/tlv702.pdf; Supplier Part Number 1: 296-32415-1-ND
footprint SOT23-5 (Regulador 3.3v)
pins: 1 Vin (power), 2 GND (power), 3 EN (power), 4 NC "4", 5 Vout (power)

## REG LDO 5V 0.5A SOT223
designator U?, comment UA78M05IDCYR  (value not drawn)
REG LDO 5V 0.5A SOT223; Manufacturer: Texas Instruments; Regulator Topology: Positive Fixed; Current - Output: 500mA; Voltage - Dropout (Typical): 2V @ 350mA; Number of Regulators: 1; Voltage - Input: 7 V ~ 25 V; Supplier 1: Digi-Key; Manufacturer Part Number: UA78M05IDCYR; RoHS: RoHS Compliant; Category: Integrated Circuits (ICs); Stock 1: 20360; Pricing 1: 1=0.62, 10=0.544, 100=0.416, 500=0.3296, 1000=0.264 (USD); Packaging: Cut Tape (CT); Part Status: Active; Voltage - Output: 5V; Current - Limit (Min): -; Operating Temperature: -40°C ~ 125°C; Mounting Type: Surface Mount; Package / Case: TO-261-4, TO-261AA; Supplier Device Package: SOT-223-4; ComponentLink1URL: http://www.ti.com/lit/ds/symlink/ua78m05.pdf; ComponentLink1Description: http://www.ti.com/lit/ds/symlink/ua78m05.pdf; Supplier Part Number 1: 296-17616-1-ND
footprint SOT-223
pins: 1 Vin, 2 GND, 3 Vout

## RES 1K 1% 0603
designator R?  Supplier Part Number 1: 1K  (hidden comment: *)
Thin Film Resistors - SMD 1Kohms 1% 50ppm; Manufacturer: Vishay; Manufacturer Part Number: TNPW06031K00FHEA; Power Rating: 100 mW; Temperature Coefficient: 50 PPM / C; Voltage Rating: 75 V; Supplier 1: Mouser; RoHS: RoHS Compliant; Category: Thin Film Resistors - SMD; Stock 1: 2821; Pricing 1: 1=0.160, 25=0.140, 100=0.130, 500=0.125, 1000=0.120, 2000=0.090, 5000=0.080, 10000=0.075, 25000=0.070 (USD); Diameter: -; Height: 0.45 mm; Length: 1.6 mm; Operating Temperature Range: - 55 C to + 125 C; Package / Case: 0603 (1608 metric); Packaging: Reel; Product: Precision Resistors Thin Film SMD; Resistance: 1 kOhms; Series: TNPW e3; Termination Style: SMD/SMT; Tolerance: 1 %; Type: High Stability Thin Film Flat Chip Resistor; Width: 0.8 mm; Brand: Vishay; Case Code - in: 0603; Case Code - mm: 1608; Standard Pack Qty: 5000; RoHS - Mouser: Y; Minimum Order Quantity: 1; Reeling: True; ComponentLink1URL: http://www.mouser.com/ds/2/427/tnpw_e3-64594.pdf; ComponentLink1Description: http://www.mouser.com/ds/2/427/tnpw_e3-64594.pdf
footprint RESISTOR 0603 (RES 5% 0603)
pins: 1, 2

## RES 4.7K 5% 0603
designator R?, comment 4K7
RES SMD 4.7K OHM 5% 1/10W 0603; Manufacturer: Panasonic Electronic Components; Manufacturer Part Number: ERJ-3GEYJ472V; Power (Watts): 0.1W, 1/10W; Temperature Coefficient: ±200ppm/°C; Supplier 1: Digi-Key; RoHS: RoHS Compliant; Category: Resistors; Stock 1: 1290000; Pricing 1: 5000=0.00209, 10000=0.00182, 25000=0.0016, 50000=0.0015 (USD); Packaging: Tape & Reel (TR); Part Status: Active; Resistance (Ohms): 4.7k; Tolerance: ±5%; Composition: Thick Film; Features: Automotive AEC-Q200; Operating Temperature: -55°C ~ 155°C; Package / Case: 0603 (1608 Metric); Supplier Device Package: 0603; Size / Dimension: 0.063" L x 0.031" W (1.60mm x 0.80mm); Height - Seated (Max): 0.022" (0.55mm); Number of Terminations: 2; Failure Rate: -; ComponentLink1URL: http://industrial.panasonic.com/www-cgi/jvcr13pz.cgi?E+PZ+3+AOA0001+ERJ3GEYJ472V+7+WW; ComponentLink1Description: http://industrial.panasonic.com/www-cgi/jvcr13pz.cgi?E+PZ+3+AOA0001+ERJ3GEYJ472V+7+WW
footprint RESISTOR 0603 (RES 5% 0603)
pins: 1, 2

## RES 10K 5% 0603
designator R?, comment 10K
Manufacturer: PANASONIC ELECTRONIC COMPONENTS; Manufacturer Part Number: ERJ-3GEYJ103V; Tolerance: ±5%; Power (Watts): 0.1W, 1/10W; Temperature Coefficient: ±200ppm/°C; RoHS: YES; ComponentLink1URL: http://www.farnell.com/datasheets/1678796.pdf; ComponentLink1Description: http://www.farnell.com/datasheets/1678796.pdf; Category: Resistors; Packaging: Tape & Reel (TR); Resistance (Ohms): 10k; Composition: Thick Film; Features: Automotive AEC-Q200; Operating Temperature: -55°C ~ 155°C; Package / Case: 0603 (1608 Metric); Supplier Device Package: 0603; Size / Dimension: 0.063" L x 0.031" W (1.60mm x 0.80mm); Height: 0.022" (0.55mm); Number of Terminations: 2; ComponentLink2URL: http://industrial.panasonic.com/www-cgi/jvcr13pz.cgi?E+PZ+3+AOA0001+ERJ3GEYJ103V+7+WW; ComponentLink2Description: http://industrial.panasonic.com/www-cgi/jvcr13pz.cgi?E+PZ+3+AOA0001+ERJ3GEYJ103V+7+WW; Supplier 1: Mouser; Supplier Part Number 1: 667-ERJ-3GEYJ103V
footprint RESISTOR 0603 (RES 5% 0603)
pins: 1, 2

## RES 15K OHM 1% 1/10W 0402
designator R?, comment 15k
RES SMD 15K OHM 1% 1/10W 0402; Manufacturer: Panasonic Electronic Components; Manufacturer Part Number: ERJ-2RKF1502X; Power (Watts): 0.1W, 1/10W; Temperature Coefficient: ±100ppm/°C; Supplier 1: Digi-Key; RoHS: RoHS Compliant; Category: Resistors; Stock 1: 278582; Pricing 1: 1=0.1, 10=0.026, 100=0.0105, 1000=0.00473, 2500=0.0041, 5000=0.00339 (USD); Packaging: Digi-Reel®; Part Status: Active; Tolerance: ±1%; Composition: Thick Film; Features: Automotive AEC-Q200; Operating Temperature: -55°C ~ 155°C; Package / Case: 0402 (1005 Metric); Supplier Device Package: 0402; Size / Dimension: 0.039" L x 0.020" W (1.00mm x 0.50mm); Height - Seated (Max): 0.016" (0.40mm); Failure Rate: -; ComponentLink1URL: https://industrial.panasonic.com/cdbs/www-data/pdf/RDA0000/AOA0000C283.pdf; ComponentLink1Description: https://industrial.panasonic.com/cdbs/www-data/pdf/RDA0000/AOA0000C283.pdf; Supplier Part Number 1: P15.0KLDKR-ND; Resistance (Ohms): 15k
footprint RESISTOR 0603 (RES 5% 0603)
pins: 1, 2

## RES 20K 5% 0603
designator R?, comment 20K
Manufacturer: Susumu; Manufacturer Part Number: RR0816P-203-D; Tolerance: ±0.5%; Power (Watts): 0.063W, 1/16W; Temperature Coefficient: ±25ppm/°C; Supplier 1: Digi-Key; RoHS: RoHS Compliant; Category: Resistors; Stock 1: 197464; Pricing 1: 1=0.1, 10=0.093, 25=0.0644, 50=0.0502, 100=0.0358, 250=0.02792, 500=0.0222, 1000=0.01575 (USD); Packaging: Cut Tape (CT); Part Status: Active; Resistance (Ohms): 20k; Composition: Thin Film; Features: -; Operating Temperature: -55°C ~ 125°C; Package / Case: 0603 (1608 Metric); Supplier Device Package: -; Size / Dimension: 0.063" L x 0.031" W (1.60mm x 0.80mm); Height: 0.020" (0.50mm); Number of Terminations: 2; Failure Rate: -; ComponentLink1URL: http://www.susumu-usa.com/pdf/RR_Data_Sheet.pdf; ComponentLink1Description: http://www.susumu-usa.com/pdf/RR_Data_Sheet.pdf; Supplier Part Number 1: RES 20K 5% 0603
footprint RESISTOR 0603 (RES 5% 0603)
pins: 1, 2

## RES 22K 1%
designator R?, comment 22k
RES SMD 22K OHM 1% 1/20W 0201; Manufacturer: Yageo; Manufacturer Part Number: RC0201FR-0722KL; Power (Watts): 0.05W, 1/20W; Temperature Coefficient: ±200ppm/°C; Supplier 1: Digi-Key; RoHS: RoHS Compliant; Category: Resistors; Stock 1: 36515; Pricing 1: 1=0.1, 10=0.041, 25=0.0296, 50=0.0224, 100=0.0166, 250=0.01264, 500=0.01012, 1000=0.00745, 5000=0.00534 (USD); Packaging: Cut Tape (CT); Part Status: Active; Resistance (Ohms): 22k; Tolerance: ±1%; Composition: Thick Film; Features: Moisture Resistant; Operating Temperature: -55°C ~ 125°C; Package / Case: 0201 (0603 Metric); Supplier Device Package: 0201; Size / Dimension: 0.024" L x 0.012" W (0.60mm x 0.30mm); Height - Seated (Max): 0.010" (0.26mm); Number of Terminations: 2; Failure Rate: -; ComponentLink1URL: http://www.yageo.com/NewPortal/yageodocoutput?fileName=/pdf/R-Chip/PYu-RC_Group_51_RoHS_L_4.pdf; ComponentLink1Description: http://www.yageo.com/NewPortal/yageodocoutput?fileName=/pdf/R-Chip/PYu-RC_Group_51_RoHS_L_4.pdf; Supplier Part Number 1: YAG2278CT-ND
footprint RESISTOR 0603 (RES 5% 0603)
pins: 1, 2